# Altium schematic symbol library WCAP-CSGP_0603_X7R.SchLib: 11 symbols
Pins are listed as number, name and electrical type; pins without a type are passive.

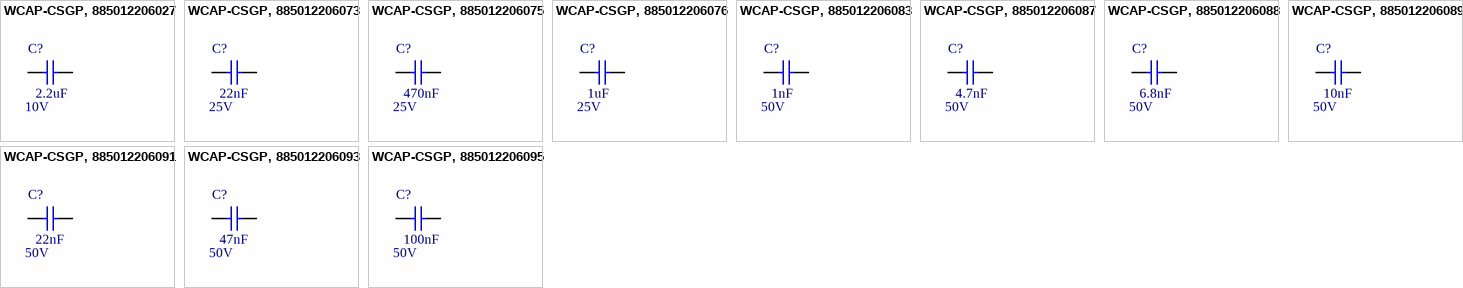
[diagram p0: symbols WCAP-CSGP, 885012206027 to WCAP-CSGP, 885012206095]

## WCAP-CSGP, 885012206027
designator C?, comment 2.2uF  RatedVoltage: 10V
CAP CER 2.2uF 10V X7R 0603; Manufacturer: Wurth Elektronik; Manufacturer Part Number: 885012206027; PublishedDate: Aug 2016; ComponentLink1Description: Manufacturer; ComponentLink1URL: http://www.we-online.de; ComponentLink2Description: Datasheet; ComponentLink2URL: http://katalog.we-online.com/pbs/datasheet/885012206027.pdf; Value: 2.2uF; Size: 0603; CeramicType: X7R
footprint WCAP-CSGP_0603, 1.6x0.8x0.8
pins: 1, 2

## WCAP-CSGP, 885012206073
designator C?, comment 22nF  RatedVoltage: 25V
CAP CER 22nF 25V X7R 0603; Manufacturer: Wurth Elektronik; Manufacturer Part Number: 885012206073; PublishedDate: Aug 2016; ComponentLink1Description: Manufacturer; ComponentLink1URL: http://www.we-online.de; ComponentLink2Description: Datasheet; ComponentLink2URL: http://katalog.we-online.com/pbs/datasheet/885012206073.pdf; Value: 22nF; Size: 0603; CeramicType: X7R
footprint WCAP-CSGP_0603, 1.6x0.8x0.8
pins: 1, 2

## WCAP-CSGP, 885012206075
designator C?, comment 470nF  RatedVoltage: 25V
CAP CER 470nF 25V X7R 0603; Manufacturer: Wurth Elektronik; Manufacturer Part Number: 885012206075; PublishedDate: Aug 2016; ComponentLink1Description: Manufacturer; ComponentLink1URL: http://www.we-online.de; ComponentLink2Description: Datasheet; ComponentLink2URL: http://katalog.we-online.com/pbs/datasheet/885012206075.pdf; Value: 470nF; Size: 0603; CeramicType: X7R
footprint WCAP-CSGP_0603, 1.6x0.8x0.8
pins: 1, 2

## WCAP-CSGP, 885012206076
designator C?, comment 1uF  RatedVoltage: 25V
CAP CER 1uF 25V X7R 0603; Manufacturer: Wurth Elektronik; Manufacturer Part Number: 885012206076; PublishedDate: Aug 2016; ComponentLink1Description: Manufacturer; ComponentLink1URL: http://www.we-online.de; ComponentLink2Description: Datasheet; ComponentLink2URL: http://katalog.we-online.com/pbs/datasheet/885012206076.pdf; Value: 1uF; Size: 0603; CeramicType: X7R
footprint WCAP-CSGP_0603, 1.6x0.8x0.8
pins: 1, 2

## WCAP-CSGP, 885012206083
designator C?, comment 1nF  RatedVoltage: 50V
CAP CER 1nF 50V X7R 0603; Manufacturer: Wurth Elektronik; Manufacturer Part Number: 885012206083; PublishedDate: Aug 2016; ComponentLink1Description: Manufacturer; ComponentLink1URL: http://www.we-online.de; ComponentLink2Description: Datasheet; ComponentLink2URL: http://katalog.we-online.com/pbs/datasheet/885012206083.pdf; Value: 1nF; Size: 0603; CeramicType: X7R
footprint WCAP-CSGP_0603, 1.6x0.8x0.8
pins: 1, 2

## WCAP-CSGP, 885012206087
designator C?, comment 4.7nF  RatedVoltage: 50V
CAP CER 4.7nF 50V X7R 0603; Manufacturer: Wurth Elektronik; Manufacturer Part Number: 885012206087; PublishedDate: Aug 2016; ComponentLink1Description: Manufacturer; ComponentLink1URL: http://www.we-online.de; ComponentLink2Description: Datasheet; ComponentLink2URL: http://katalog.we-online.com/pbs/datasheet/885012206087.pdf; Value: 4.7nF; Size: 0603; CeramicType: X7R
footprint WCAP-CSGP_0603, 1.6x0.8x0.8
pins: 1, 2

## WCAP-CSGP, 885012206088
designator C?, comment 6.8nF  RatedVoltage: 50V
CAP CER 6.8nF 50V X7R 0603; Manufacturer: Wurth Elektronik; Manufacturer Part Number: 885012206088; PublishedDate: Aug 2016; ComponentLink1Description: Manufacturer; ComponentLink1URL: http://www.we-online.de; ComponentLink2Description: Datasheet; ComponentLink2URL: http://katalog.we-online.com/pbs/datasheet/885012206088.pdf; Value: 6.8nF; Size: 0603; CeramicType: X7R
footprint WCAP-CSGP_0603, 1.6x0.8x0.8
pins: 1, 2

## WCAP-CSGP, 885012206089
designator C?, comment 10nF  RatedVoltage: 50V
CAP CER 10nF 50V X7R 0603; Manufacturer: Wurth Elektronik; Manufacturer Part Number: 885012206089; PublishedDate: Aug 2016; ComponentLink1Description: Manufacturer; ComponentLink1URL: http://www.we-online.de; ComponentLink2Description: Datasheet; ComponentLink2URL: http://katalog.we-online.com/pbs/datasheet/885012206089.pdf; Value: 10nF; Size: 0603; CeramicType: X7R
footprint WCAP-CSGP_0603, 1.6x0.8x0.8
pins: 1, 2

## WCAP-CSGP, 885012206091
designator C?, comment 22nF  RatedVoltage: 50V
CAP CER 22nF 50V X7R 0603; Manufacturer: Wurth Elektronik; Manufacturer Part Number: 885012206091; PublishedDate: Aug 2016; ComponentLink1Description: Manufacturer; ComponentLink1URL: http://www.we-online.de; ComponentLink2Description: Datasheet; ComponentLink2URL: http://katalog.we-online.com/pbs/datasheet/885012206091.pdf; Value: 22nF; Size: 0603; CeramicType: X7R
footprint WCAP-CSGP_0603, 1.6x0.8x0.8
pins: 1, 2

## WCAP-CSGP, 885012206093
designator C?, comment 47nF  RatedVoltage: 50V
CAP CER 47nF 50V X7R 0603; Manufacturer: Wurth Elektronik; Manufacturer Part Number: 885012206093; PublishedDate: Aug 2016; ComponentLink1Description: Manufacturer; ComponentLink1URL: http://www.we-online.de; ComponentLink2Description: Datasheet; ComponentLink2URL: http://katalog.we-online.com/pbs/datasheet/885012206093.pdf; Value: 47nF; Size: 0603; CeramicType: X7R
footprint WCAP-CSGP_0603, 1.6x0.8x0.8
pins: 1, 2

## WCAP-CSGP, 885012206095
designator C?, comment 100nF  RatedVoltage: 50V
CAP CER 100nF 50V X7R 0603; Manufacturer: Wurth Elektronik; Manufacturer Part Number: 885012206095; PublishedDate: Aug 2016; ComponentLink1Description: Manufacturer; ComponentLink1URL: http://www.we-online.de; ComponentLink2Description: Datasheet; ComponentLink2URL: http://katalog.we-online.com/pbs/datasheet/885012206095.pdf; Value: 100nF; Size: 0603; CeramicType: X7R; Supplier 2: JLCPCB; Supplier Part Number 2: C14663
footprint WCAP-CSGP_0603, 1.6x0.8x0.8
pins: 1, 2